# Altium schematic symbol library BAS20T1.SchLib: 2 symbols
Pins are listed as number, name and electrical type; pins without a type are passive.

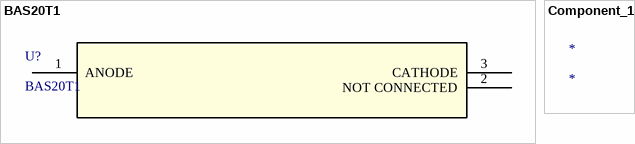
[diagram p0: symbols BAS20T1 to Component_1]

## BAS20T1
designator U?
No Description Available; Mfr_Name: Nexperia; Copyright: Copyright (C) 2021 Ultra Librarian. All rights reserved.; Manufacturer_Part_Number: BAS20T1; RefDes: RefDes; Type: DEV
footprint SOT23_NEX
pins: 1 ANODE, 2 NOT CONNECTED, 3 CATHODE

## Component_1
designator *